# Altium schematic symbol library FP6291.Schlib: 1 symbol
Pins are listed as number, name and electrical type; pins without a type are passive.

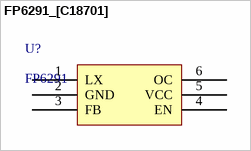
[diagram p0: symbol FP6291_[C18701]]

## FP6291_[C18701]
designator U?, comment FP6291
DC-DC芯片
footprint SOT-23-6
pins: 1 LX, 2 GND, 3 FB, 4 EN, 5 VCC, 6 OC